# Altium footprint library MezzanineDCDC.PcbLib: 26 footprints (part 1 of 2)
Each footprint in its own frame and in the unit in brackets; x right, y up, seen from the top. Pads: shape width x height; smd on the part's side, far side on the other; paste and mask are expansions set on the pad; w line width, h text height; cw(c..) or ccw(c..) is an arc to the next point about the centre after c.
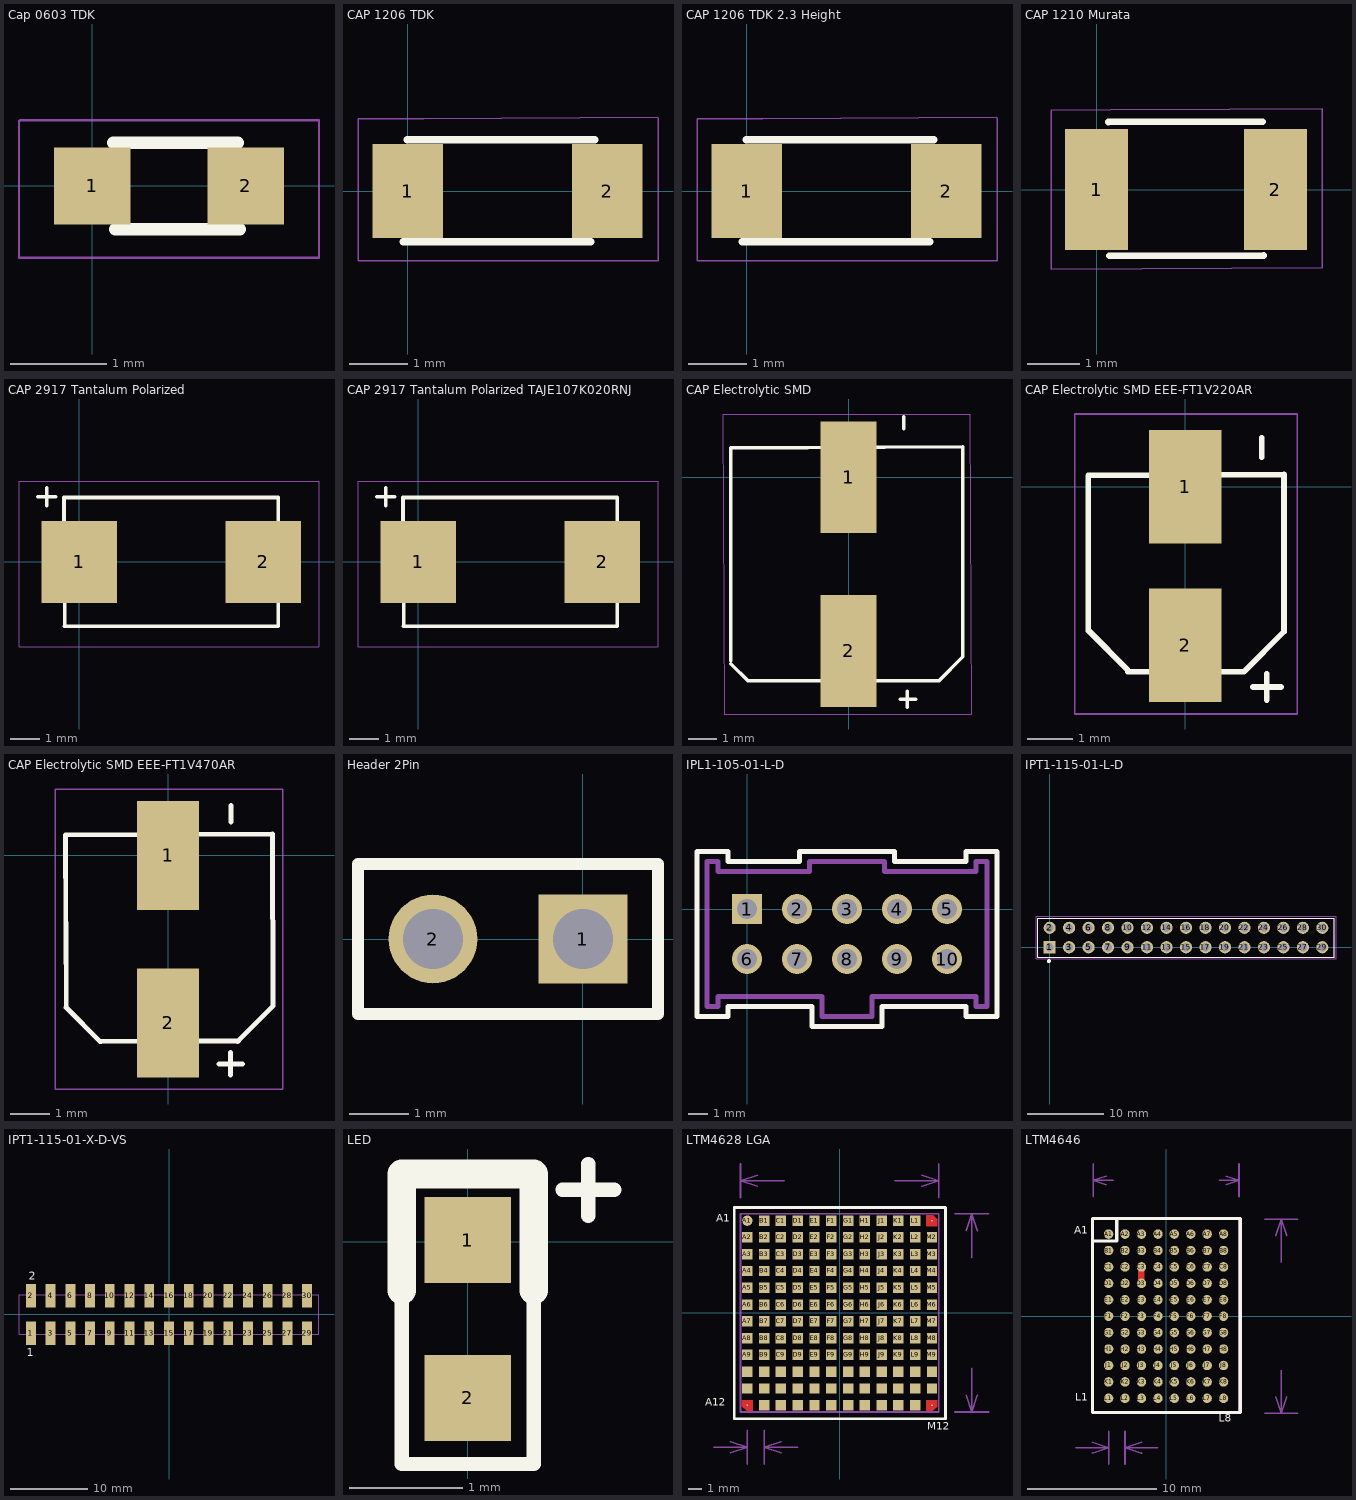
[diagram p0: the footprints below, top view; thin cyan lines are the x and y axes]

## Cap 0603 TDK [mm]
pads (2):
  rect 0.8x0.8 smd: 1(0,0) 2(1.6,0)
Top Overlay:
  lines w0.127: 0.22,0.45 1.52,0.45 ; 0.24,-0.45 1.54,-0.45
Mechanical 16:
  lines w0.025: -0.762,-0.749 2.362,-0.749 2.362,0.686 -0.508,0.686 -0.749,0.686 -0.762,0.673 -0.762,-0.749
3D body: height 0.9, standoff 0, extent 0.001,-0.4 1.6,0.4

## CAP 1206 TDK [mm]
pads (2):
  rect 1.2x1.6 smd: 1(0,0) 2(3.4,0)
Top Overlay:
  lines w0.127: -0.076,-0.864 3.124,-0.864 ; -0.014,0.873 3.186,0.873
Mechanical 16:
  lines w0.025: 4.267,-1.188 2.282,-1.188 -0.85,-1.188 -0.85,1.232 0.275,1.232 4.267,1.257 ; 4.267,-1.185 4.267,-0.576 4.267,0.642 4.267,1.251
3D body: height 1.9, standoff 0, extent 0,-0.8 3.2,0.8

## CAP 1206 TDK 2.3 Height [mm]
pads (2):
  rect 1.2x1.6 smd: 1(0,0) 2(3.4,0)
Top Overlay:
  lines w0.127: -0.076,-0.864 3.124,-0.864 ; -0.014,0.873 3.186,0.873
Mechanical 16:
  lines w0.025: 4.267,-1.188 2.282,-1.188 -0.85,-1.188 -0.85,1.232 0.275,1.232 4.267,1.257 ; 4.267,-1.185 4.267,-0.576 4.267,0.642 4.267,1.251
3D body: height 2.3, standoff 0, extent 0,-0.837 3.2,0.837

## CAP 1210 Murata [mm]
pads (2):
  rect 1.2x2.3 smd: 1(0,0) 2(3.4,0)
Top Overlay:
  lines w0.127: 0.225,1.285 3.16,1.29 ; 0.242,-1.255 3.177,-1.251
Mechanical 16:
  lines w0.025: -0.864,-1.512 -0.864,1.51 0.267,1.516 2.527,1.528 4.293,1.538 4.293,-1.484 -0.864,-1.512
3D body: height 2.7, standoff 0, extent 0.008,-1.25 3.2,1.25

## CAP 2917 Tantalum Polarized [mm]
pads (2):
  rect 2.55x2.77 smd: 1(0,0) 2(6.22,0)
Top Overlay:
  lines w0.127: -1.4,2.2 -0.8,2.2 ; -1.1,1.9 -1.1,2.5 ; -0.525,2.177 6.718,2.177 6.718,-2.151 ; -0.519,2.165 -0.497,-2.169 ; -0.5,-2.176 6.708,-2.175
Mechanical 16:
  lines w0.025: -2.041,-2.875 8.092,-2.875 ; -2.041,-2.869 -2.041,2.731 8.092,2.731 ; 8.098,-2.875 8.098,2.725
3D body: height 3, standoff 0, extent -0.543,-2.14 6.736,2.177

## CAP 2917 Tantalum Polarized TAJE107K020RNJ [mm]
pads (2):
  rect 2.55x2.77 smd: 1(0,0) 2(6.22,0)
Top Overlay:
  lines w0.127: -1.4,2.2 -0.8,2.2 ; -1.1,1.9 -1.1,2.5 ; -0.525,2.177 6.718,2.177 6.718,-2.151 ; -0.519,2.165 -0.497,-2.169 ; -0.5,-2.176 6.708,-2.175
Mechanical 16:
  lines w0.025: -2.041,-2.875 8.092,-2.875 ; -2.041,-2.869 -2.041,2.731 8.092,2.731 ; 8.098,-2.875 8.098,2.725
3D body: height 4.3, standoff 0, extent -0.543,-2.14 6.736,2.177

## CAP Electrolytic SMD [mm]
pads (2):
  rect 2x4 smd: 1(0,0) 2(0,-6.2)
Top Overlay:
  lines w0.025: -4.207,-6.662 -4.207,-6.56 -4.207,-6.662
  lines w0.127: -4.207,-6.662 -3.591,-7.278 3.222,-7.278 4.082,-6.418 4.082,1.088 ; -4.207,-6.56 -4.207,1.046 4.075,1.088 ; 1.84,-7.93 2.4,-7.93 ; 1.97,1.74 1.97,2.17 ; 2.087,-8.22 2.087,-7.64
Mechanical 16:
  lines w0.025: -4.493,2.261 4.32,2.261 4.377,-8.458 -4.435,-8.458 -4.493,2.261
3D body: height 0.25, standoff 0, extent -0.102,-1.194 -0.102,-1.194
3D body: height 10.5, standoff 0, extent -4.08,-7.074 3.92,0.92

## CAP Electrolytic SMD EEE-FT1V220AR [mm]
pads (2):
  rect 1.6x2.5 smd: 1(0,0) 2(0,-3.5)
Top Overlay:
  lines w0.127: -2.133,-3.177 -2.133,0.245 ; -2.126,-3.177 -1.264,-4.04 ; -2.124,0.245 2.176,0.267 ; -1.264,-4.077 1.295,-4.077 2.177,-3.196 2.177,0.261 ; 1.494,-4.414 2.111,-4.414 ; 1.688,0.646 1.688,1.076 ; 1.798,-4.704 1.798,-4.125
Mechanical 16:
  lines w0.038: -2.431,-5.011 -2.431,1.584 ; -2.431,1.6 2.468,1.6 ; -2.43,-5.011 2.47,-5.011 ; 2.468,-5.011 2.468,1.59
3D body: height 0.25, standoff 0, extent -0.102,-1.194 -0.102,-1.194
3D body: height 6, standoff 0, extent -1.949,-3.756 2.051,0.244

## CAP Electrolytic SMD EEE-FT1V470AR [mm]
pads (2):
  rect 1.6x2.8 smd: 1(0,0) 2(0,-4.3)
Top Overlay:
  lines w0.127: -2.632,0.507 -2.61,-3.902 ; -2.633,0.517 2.676,0.544 ; -2.618,-3.902 -1.741,-4.779 ; -1.72,-4.779 0.824,-4.767 ; 0.803,-4.766 1.815,-4.766 ; 1.301,-5.35 1.918,-5.35 ; 1.605,-5.64 1.605,-5.06 ; 1.612,0.852 1.612,1.282 ; 1.787,-4.773 2.678,-3.882 ; 2.675,0.549 2.697,-3.859
Mechanical 16:
  lines w0.038: -2.896,-5.994 -2.896,1.702 2.946,1.702 2.946,-5.994 -2.896,-5.994
3D body: height 0.25, standoff 0, extent -0.102,-1.194 -0.102,-1.194
3D body: height 6, standoff 0, extent -2.443,-4.59 2.557,0.404

## Header 2Pin [mm]
pads (2):
  rect 1.5x1.5 hole 1.016: 1(0,0)
  round 1.5 hole 1.016: 2(-2.54,0)
Top Overlay:
  lines w0.2: -3.81,-1.27 1.27,-1.27 1.27,1.27 -3.81,1.27 -3.81,-1.27
3D body: height 3.05, standoff 0, extent -0.362,-0.365 0.296,0.294
3D body: height 3.05, standoff 0, extent -2.867,-0.329 -2.21,0.33
3D body: height 2.54, standoff 0, extent -3.732,-1.168 1.27,1.181
3D body: height 8.38, standoff 2.54, extent -0.405,-0.443 0.354,0.317
3D body: height 8.38, standoff 2.54, extent -2.918,-0.38 -2.159,0.38

## IPL1-105-01-L-D [mil] "Discrete wire header"
pads (10):
  rect 60x60 hole 40 mask+3: 1(0,0)
  round 60 hole 40 mask+3: 2(100,0) 3(200,0) 4(300,0) 6(0,-100) 7(100,-100) 8(200,-100) 9(300,-100) 10(400,-100)
  round 60 hole 40: 5(400,0)
Top Overlay:
  lines w10: -100,-215 -100,115 -38,115 -38,95 105,95 105,115 295,115 295,95 438,95 438,115 500,115 500,-215 438,-215 438,-195 270,-195 270,-235 130,-235 130,-195 -38,-195 -38,-215 -100,-215
Mechanical 15:
  lines w10: -80,-195 -58,-195 -58,-175 150,-175 150,-215 250,-215 250,-175 458,-175 458,-195 480,-195 480,95 458,95 458,75 275,75 275,95 125,95 125,75 -58,75 -58,95 -80,95 -80,-195
3D body: height 320, standoff 0, extent -95,-215 482,115
3D body: height 120, standoff 0, extent -12.89,-12.97 13,12.98
3D body: height 120, standoff 0, extent 81.88,-12.45 107.77,13.49
3D body: height 120, standoff 0, extent 181.88,-12.45 207.77,13.49
3D body: height 120, standoff 0, extent 281.88,-12.45 307.77,13.49
3D body: height 120, standoff 0, extent 381.88,-12.45 407.77,13.49
3D body: height 120, standoff 0, extent 381.88,-112.45 407.77,-86.51
3D body: height 120, standoff 0, extent 281.88,-112.45 307.77,-86.51
3D body: height 120, standoff 0, extent 181.88,-112.45 207.77,-86.51
3D body: height 120, standoff 0, extent 81.88,-112.45 107.77,-86.51
3D body: height 120, standoff 0, extent -18.12,-112.45 7.77,-86.51

## IPT1-115-01-L-D [mm]
pads (30):
  rect 1.59x1.59 hole 1.06: 1(0,0)
  round 1.59 hole 1.06: 2(0,2.54) 3(2.54,0) 4(2.54,2.54) 5(5.08,0) 6(5.08,2.54) 7(7.62,0) 8(7.62,2.54) 9(10.16,0) 10(10.16,2.54) 11(12.7,0) 12(12.7,2.54) 13(15.24,0) 14(15.24,2.54) 15(17.78,0) 16(17.78,2.54) 17(20.32,0) 18(20.32,2.54) 19(22.86,0) 20(22.86,2.54) 21(25.4,0) 22(25.4,2.54) 23(27.94,0) 24(27.94,2.54) 25(30.48,0) 26(30.48,2.54) 27(33.02,0) 28(33.02,2.54) 29(35.56,0) 30(35.56,2.54)
Top Overlay:
  circle w0.3: c-0.1,-1.8 r0.1
  lines w0.127: -1.52,-1.27 -1.52,3.81 37.08,3.81 37.08,-1.27 -1.52,-1.27
Mechanical 13:
  lines w0.127: -1.52,-1.27 37.08,-1.27 37.08,3.81 -1.52,3.81 -1.52,-1.27
Mechanical 15:
  lines w0.05: -1.78,-1.52 37.34,-1.52 37.34,4.06 -1.78,4.06 -1.78,-1.52
3D body: height 2.16, standoff 0, extent -0.289,-0.342 0.343,0.292
3D body: height 2.16, standoff 0, extent 2.251,-0.342 2.883,0.292
3D body: height 2.16, standoff 0, extent 4.791,-0.342 5.423,0.292
3D body: height 2.16, standoff 0, extent 7.331,-0.342 7.963,0.292
3D body: height 2.16, standoff 0, extent 9.871,-0.342 10.503,0.292
3D body: height 2.16, standoff 0, extent 12.411,-0.342 13.043,0.292
3D body: height 2.16, standoff 0, extent 14.951,-0.342 15.583,0.292
3D body: height 2.16, standoff 0, extent 17.491,-0.342 18.123,0.292
3D body: height 2.16, standoff 0, extent 20.031,-0.342 20.663,0.292
3D body: height 2.16, standoff 0, extent 22.571,-0.342 23.203,0.292
3D body: height 2.16, standoff 0, extent 25.111,-0.342 25.743,0.292
3D body: height 2.16, standoff 0, extent 27.651,-0.342 28.283,0.292
3D body: height 2.16, standoff 0, extent 30.191,-0.342 30.823,0.292
3D body: height 2.16, standoff 0, extent 32.731,-0.342 33.363,0.292
3D body: height 2.16, standoff 0, extent 35.271,-0.342 35.903,0.292
3D body: height 2.16, standoff 0, extent 35.271,2.198 35.903,2.832
3D body: height 2.16, standoff 0, extent 32.731,2.198 33.363,2.832
3D body: height 2.16, standoff 0, extent 30.191,2.198 30.823,2.832
3D body: height 2.16, standoff 0, extent 27.651,2.198 28.283,2.832
3D body: height 2.16, standoff 0, extent 25.111,2.198 25.743,2.832
3D body: height 2.16, standoff 0, extent 22.571,2.198 23.203,2.832
3D body: height 2.16, standoff 0, extent 20.031,2.198 20.663,2.832
3D body: height 2.16, standoff 0, extent 17.491,2.198 18.123,2.832
3D body: height 2.16, standoff 0, extent 14.951,2.198 15.583,2.832
3D body: height 2.16, standoff 0, extent 12.411,2.198 13.043,2.832
3D body: height 2.16, standoff 0, extent 9.871,2.198 10.503,2.832
3D body: height 2.16, standoff 0, extent 7.331,2.198 7.963,2.832
3D body: height 2.16, standoff 0, extent 4.791,2.198 5.423,2.832
3D body: height 2.16, standoff 0, extent 2.251,2.198 2.883,2.832
3D body: height 2.16, standoff 0, extent -0.289,2.198 0.343,2.832
3D body: height 6.35, standoff 0, extent -1.471,-1.278 37.112,3.777

## IPT1-115-01-X-D-VS [mil]
pads (30):
  rect 50x120 smd: 1(-700,-95) 2(-700,95) 3(-600,-95) 4(-600,95) 5(-500,-95) 6(-500,95) 7(-400,-95) 8(-400,95) 9(-300,-95) 10(-300,95) 11(-200,-95) 12(-200,95) 13(-100,-95) 14(-100,95) 15(0,-95) 16(0,95) 17(100,-95) 18(100,95) 19(200,-95) 20(200,95) 21(300,-95) 22(300,95) 23(400,-95) 24(400,95) 25(500,-95) 26(500,95) 27(600,-95) 28(600,95) 29(700,-95) 30(700,95)
Top Overlay:
  text "2" at -711.09,175.27 h40.06
  text "1" at -720.98,-210.29 h40.05
Mechanical 13:
  lines w5: -760,-100 -760,100 760,100 760,-100 -760,-100
3D body: height 250, standoff 0, extent -760,-99 759,100

## LED [mil]
pads (2):
  rect 30x30 smd: 1(0,0.5) 2(0,-54.5)
Top Overlay:
  lines w5: 33,18 51,18 ; 42,9 42,27 ; -23,-77.5 23,-77.5 23,23.5 -23,23.5 -23,-77.5
  lines w10: -23,-17 -23,23.5 23,23.5 23,-17
3D body: height 25.59, standoff 0, extent -15.75,-62.47 15.75,0.47

## LTM4628 LGA [mil]
pads (144):
  round 31 smd paste-3.5 mask-3: A1(-275,275)
  rect 31x31 smd paste-3.5 mask-3: A2(-275,225) A3(-275,175) A4(-275,125) A5(-275,75) A6(-275,25) A7(-275,-25) A8(-275,-75) A9(-275,-125) A10(-275,-175) A11(-275,-225) B1(-225,275) B2(-225,225) B3(-225,175) B4(-225,125) B5(-225,75) B6(-225,25) B7(-225,-25) B8(-225,-75) B9(-225,-125) B10(-225,-175) B11(-225,-225) B12(-225,-275) C1(-175,275) C2(-175,225) C3(-175,175) C4(-175,125) C5(-175,75) C6(-175,25) C7(-175,-25) C8(-175,-75) C9(-175,-125) C10(-175,-175) C11(-175,-225) C12(-175,-275) D1(-125,275) D2(-125,225) D3(-125,175) D4(-125,125) D5(-125,75) D6(-125,25) D7(-125,-25) D8(-125,-75) D9(-125,-125) D10(-125,-175) D11(-125,-225) D12(-125,-275) E1(-75,275) E2(-75,225) E3(-75,175) E4(-75,125) E5(-75,75) E6(-75,25) E7(-75,-25) E8(-75,-75) E9(-75,-125) E10(-75,-175) E11(-75,-225) E12(-75,-275) F1(-25,275) F2(-25,225) F3(-25,175) F4(-25,125) F5(-25,75) F6(-25,25) F7(-25,-25) F8(-25,-75) F9(-25,-125) F10(-25,-175) F11(-25,-225) F12(-25,-275) G1(25,275) G2(25,225) G3(25,175) G4(25,125) G5(25,75) G6(25,25) G7(25,-25) G8(25,-75) G9(25,-125) G10(25,-175) G11(25,-225) G12(25,-275) H1(75,275) H2(75,225) H3(75,175) H4(75,125) H5(75,75) H6(75,25) H7(75,-25) H8(75,-75) H9(75,-125) H10(75,-175) H11(75,-225) H12(75,-275) J1(125,275) J2(125,225) J3(125,175) J4(125,125) J5(125,75) J6(125,25) J7(125,-25) J8(125,-75) J9(125,-125) J10(125,-175) J11(125,-225) J12(125,-275) K1(175,275) K2(175,225) K3(175,175) K4(175,125) K5(175,75) K6(175,25) K7(175,-25) K8(175,-75) K9(175,-125) K10(175,-175) K11(175,-225) K12(175,-275) L1(225,275) L2(225,225) L3(225,175) L4(225,125) L5(225,75) L6(225,25) L7(225,-25) L8(225,-75) L9(225,-125) L10(225,-175) L11(225,-225) L12(225,-275) M2(275,225) M3(275,175) M4(275,125) M5(275,75) M6(275,25) M7(275,-25) M8(275,-75) M9(275,-125) M10(275,-175) M11(275,-225)
  rect 5x5 smd paste-3.5 mask-3: A12(-275,-275) M1(275,275) M12(275,-275)
Top Layer:
  region: -290.5,-259.5 -259.5,-259.5 -259.5,-290.5 -277.5,-290.5 -290.5,-277.5
  region: 259.5,-259.5 259.5,-290.5 277.5,-290.5 290.5,-277.5 290.5,-259.5
  region: 259.5,290.5 259.5,259.5 290.5,259.5 290.5,277.5 277.5,290.5
  lines w0.39: -290.5,-277.5 -277.5,-290.5 -259.5,-290.5 -259.5,-259.5 -290.5,-259.5 -290.5,-277.5 ; 259.5,-290.5 277.5,-290.5 290.5,-277.5 290.5,-259.5 259.5,-259.5 259.5,-290.5 ; 259.5,259.5 290.5,259.5 290.5,277.5 277.5,290.5 259.5,290.5 259.5,259.5
Top Overlay:
  lines w8: -314.37,-315.55 315.55,-315.55 315.55,314.37 -314.37,314.37 -314.37,-315.55
  text "M12" at 261,-357 h40
  text "A1" at -367,263 h40
  text "A12" at -400,-286 h40
Mechanical 15:
  lines w5: -375,-400 -275,-400 ; -325,-416.67 -275,-400 ; -325,-383.33 -275,-400 ; -295.28,343.7 -295.28,443.7 ; -275,-450 -275,-350 ; -245.28,377.03 -295.28,393.7 ; -245.28,410.37 -295.28,393.7 ; -225,-450 -225,-350 ; -175,-416.67 -225,-400 ; -175,-383.33 -225,-400 ; -164.95,393.7 -295.28,393.7 ; -125,-400 -225,-400 ; 164.95,393.7 295.28,393.7 ; 245.28,377.03 295.28,393.7 ; 245.28,410.37 295.28,393.7 ; 295.28,343.7 295.28,443.7 ; 343.7,-295.28 443.7,-295.28 ; 343.7,295.28 443.7,295.28 ; 377.03,-245.28 393.7,-295.28 ; 377.03,245.28 393.7,295.28 ; 393.7,-164.95 393.7,-295.28 ; 393.7,164.95 393.7,295.28 ; 410.37,-245.28 393.7,-295.28 ; 410.37,245.28 393.7,295.28 ; -295.28,-295.28 -295.28,295.28 295.28,295.28 295.28,-295.28 -295.28,-295.28
  text "1.27 (mm)" at -450.77,-519.97 h50
  text "15 (mm)" at 423.69,-154.95 h50
  text "15 (mm)" at -154.95,363.71 h50
3D body: height 170.08, standoff 0, extent -315,-315 315,315

## LTM4646 [mm]
pads (88):
  round 0.73 smd: A1(-4.445,6.35) A2(-3.175,6.35) A3(-1.905,6.35) A4(-0.635,6.35) A5(0.635,6.35) A6(1.905,6.35) A7(3.175,6.35) A8(4.445,6.35) B1(-4.445,5.08) B2(-3.175,5.08) B3(-1.905,5.08) B4(-0.635,5.08) B5(0.635,5.08) B6(1.905,5.08) B7(3.175,5.08) B8(4.445,5.08) C1(-4.445,3.81) C2(-3.175,3.81) C3(-1.905,3.81) C4(-0.635,3.81) C5(0.635,3.81) C6(1.905,3.81) C7(3.175,3.81) C8(4.445,3.81) D1(-4.445,2.54) D2(-3.175,2.54) D3(-1.905,2.54) D4(-0.635,2.54) D5(0.635,2.54) D6(1.905,2.54) D7(3.175,2.54) D8(4.445,2.54) E1(-4.445,1.27) E2(-3.175,1.27) E3(-1.905,1.27) E4(-0.635,1.27) E5(0.635,1.27) E6(1.905,1.27) E7(3.175,1.27) E8(4.445,1.27) F1(-4.445,0) F2(-3.175,0) F3(-1.905,0) F4(-0.635,0) F5(0.635,0) F6(1.905,0) F7(3.175,0) F8(4.445,0) G1(-4.445,-1.27) G2(-3.175,-1.27) G3(-1.905,-1.27) G4(-0.635,-1.27) G5(0.635,-1.27) G6(1.905,-1.27) G7(3.175,-1.27) G8(4.445,-1.27) H1(-4.445,-2.54) H2(-3.175,-2.54) H3(-1.905,-2.54) H4(-0.635,-2.54) H5(0.635,-2.54) H6(1.905,-2.54) H7(3.175,-2.54) H8(4.445,-2.54) J1(-4.445,-3.81) J2(-3.175,-3.81) J3(-1.905,-3.81) J4(-0.635,-3.81) J5(0.635,-3.81) J6(1.905,-3.81) J7(3.175,-3.81) J8(4.445,-3.81) K1(-4.445,-5.08) K2(-3.175,-5.08) K3(-1.905,-5.08) K4(-0.635,-5.08) K5(0.635,-5.08) K6(1.905,-5.08) K7(3.175,-5.08) K8(4.445,-5.08) L1(-4.445,-6.35) L2(-3.175,-6.35) L3(-1.905,-6.35) L4(-0.635,-6.35) L5(0.635,-6.35) L6(1.905,-6.35) L7(3.175,-6.35) L8(4.445,-6.35)
Top Layer:
  lines w0.508: -1.905,2.54 -1.905,3.81
Top Overlay:
  lines w0.254: -5.69,5.816 -3.81,5.816 -3.81,7.544 ; -5.69,-7.449 -5.69,7.551 5.74,7.551 5.74,-7.449 -5.69,-7.449
  text "L1" at -7.01,-6.731 h1.02
  text "A1" at -7.087,6.172 h1.02
  text "L8" at 4.089,-8.371 h1.02
Mechanical 16:
  lines w0.127: -6.985,-10.16 -4.445,-10.16 ; -5.715,-10.583 -4.445,-10.16 ; -5.715,-9.737 -4.445,-10.16 ; -5.643,9.23 -5.643,11.77 ; -4.643,10.167 -5.643,10.5 ; -4.643,10.833 -5.643,10.5 ; -4.445,-11.43 -4.445,-8.89 ; -4.106,10.5 -5.643,10.5 ; -3.175,-11.43 -3.175,-8.89 ; -1.905,-10.583 -3.175,-10.16 ; -1.905,-9.737 -3.175,-10.16 ; -0.635,-10.16 -3.175,-10.16 ; 4.106,10.5 5.643,10.5 ; 4.643,10.167 5.643,10.5 ; 4.643,10.833 5.643,10.5 ; 5.643,9.23 5.643,11.77 ; 7.627,-7.5 10.167,-7.5 ; 7.627,7.5 10.167,7.5 ; 8.474,-6.23 8.897,-7.5 ; 8.474,6.23 8.897,7.5 ; 8.897,-4.19 8.897,-7.5 ; 8.897,4.19 8.897,7.5 ; 9.32,-6.23 8.897,-7.5 ; 9.32,6.23 8.897,7.5 ; -5.625,-7.5 -5.625,7.5 5.625,7.5 5.625,-7.5 -5.625,-7.5
  text "11.25 (mm)" at -3.429,10.16 h0.76
  text "15 (mm)" at 9.659,-3.936 h1.27
  text "1.27 (mm)" at -8.91,-13.207 h1.27
3D body: height 5.01, standoff 0, extent -5.588,-7.493 5.588,7.493